# Altium schematic symbol library WP-RATR.SchLib: 10 symbols
Pins are listed as number, name and electrical type; pins without a type are passive.

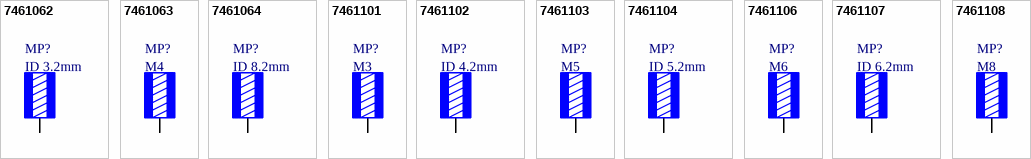
[diagram p0: symbols 7461062 to 7461108]

## 7461062
designator MP?, comment ID 3.2mm
WP-RATR REDCUBE PRESS-FIT right angled, two-rows, 7mm x 7mm x 14mm, ID 3.2mm, 100A; Manufacturer Part Number: 7461062; Manufacturer: Wurth Elektronik; Surface: Tin; Category: REDCUBE PRESS-FIT; Match Code: WP-RATR; ComponentLink1Description: Website Link; ComponentLink1URL: https://www.we-online.com/redexpert/article/7461062?ad; ComponentLink2Description: Datasheet Link; ComponentLink2URL: https://www.we-online.com/redexpert/spec/7461062?ad; Mount: Press Fit; Min Operating Temperature: -55°C; Max Operating Temperature: 150°C; Packaging: Bulk; Length: 7mm; Width: 7mm; Height: 14mm; Inner Diameter: 3.2mm; Material: Brass; Number of Pins: 6; Rated Current: 100A
footprint 7461062_chemical surface
footprint 7461062_HAL
pins: 1

## 7461063
designator MP?, comment M4
WP-RATR REDCUBE PRESS-FIT right angled, two-rows, 9mm x 9mm x 14mm, M4, 160A; Manufacturer Part Number: 7461063; Manufacturer: Wurth Elektronik; Surface: Tin; Category: REDCUBE PRESS-FIT; Match Code: WP-RATR; ComponentLink1Description: Website Link; ComponentLink1URL: https://www.we-online.com/redexpert/article/7461063?ad; ComponentLink2Description: Datasheet Link; ComponentLink2URL: https://www.we-online.com/redexpert/spec/7461063?ad; Mount: Press Fit; Min Operating Temperature: -55°C; Max Operating Temperature: 150°C; Packaging: Tray; Length: 9mm; Width: 9mm; Height: 14mm; Material: Brass; Number of Pins: 8; Rated Current: 160A; Thread Size: M4
footprint 7461063_chemical surface
footprint 7461063_HAL
pins: 1

## 7461064
designator MP?, comment ID 8.2mm
WP-RATR REDCUBE PRESS-FIT right angled, two-rows, 13mm x 13mm x 20mm, ID 8.2mm, 240A; Manufacturer Part Number: 7461064; Manufacturer: Wurth Elektronik; Surface: Tin; Category: REDCUBE PRESS-FIT; Match Code: WP-RATR; ComponentLink1Description: Website Link; ComponentLink1URL: https://www.we-online.com/redexpert/article/7461064?ad; ComponentLink2Description: Datasheet Link; ComponentLink2URL: https://www.we-online.com/redexpert/spec/7461064?ad; Mount: Press Fit; Min Operating Temperature: -55°C; Max Operating Temperature: 150°C; Packaging: Tray; Length: 13mm; Width: 13mm; Height: 20mm; Inner Diameter: 8.2mm; Material: Brass; Number of Pins: 10; Rated Current: 240A
footprint 7461064_chemical surface
footprint 7461064_HAL
pins: 1

## 7461101
designator MP?, comment M3
WP-RATR REDCUBE PRESS-FIT right angled, two-rows, 7mm x 7mm x 14mm, M3, 100A; Manufacturer Part Number: 7461101; Manufacturer: Wurth Elektronik; Surface: Tin; Category: REDCUBE PRESS-FIT; Match Code: WP-RATR; ComponentLink1Description: Website Link; ComponentLink1URL: https://www.we-online.com/redexpert/article/7461101?ad; ComponentLink2Description: Datasheet Link; ComponentLink2URL: https://www.we-online.com/redexpert/spec/7461101?ad; Mount: Press Fit; Min Operating Temperature: -55°C; Max Operating Temperature: 150°C; Packaging: Bulk; Length: 7mm; Width: 7mm; Height: 14mm; Material: Brass; Number of Pins: 6; Rated Current: 100A; Thread Size: M3
footprint 7461101_chemical surface
footprint 7461101_HAL
pins: 1

## 7461102
designator MP?, comment ID 4.2mm
WP-RATR REDCUBE PRESS-FIT right angled, two-rows, 9mm x 9mm x 14mm, ID 4.2mm, 160A; Manufacturer Part Number: 7461102; Manufacturer: Wurth Elektronik; Surface: Tin; Category: REDCUBE PRESS-FIT; Match Code: WP-RATR; ComponentLink1Description: Website Link; ComponentLink1URL: https://www.we-online.com/redexpert/article/7461102?ad; ComponentLink2Description: Datasheet Link; ComponentLink2URL: https://www.we-online.com/redexpert/spec/7461102?ad; Mount: Press Fit; Min Operating Temperature: -55°C; Max Operating Temperature: 150°C; Packaging: Tray; Length: 9mm; Width: 9mm; Height: 14mm; Inner Diameter: 4.2mm; Material: Brass; Number of Pins: 8; Rated Current: 160A
footprint 7461102_chemical surface
footprint 7461102_HAL
pins: 1

## 7461103
designator MP?, comment M5
WP-RATR REDCUBE PRESS-FIT right angled, two-rows, 9mm x 9mm x 14mm, M5, 160A; Manufacturer Part Number: 7461103; Manufacturer: Wurth Elektronik; Surface: Tin; Category: REDCUBE PRESS-FIT; Match Code: WP-RATR; ComponentLink1Description: Website Link; ComponentLink1URL: https://www.we-online.com/redexpert/article/7461103?ad; ComponentLink2Description: Datasheet Link; ComponentLink2URL: https://www.we-online.com/redexpert/spec/7461103?ad; Mount: Press Fit; Min Operating Temperature: -55°C; Max Operating Temperature: 150°C; Packaging: Tray; Length: 9mm; Width: 9mm; Height: 14mm; Material: Brass; Number of Pins: 8; Rated Current: 160A; Thread Size: M5
footprint 7461103_chemical surface
footprint 7461103_HAL
pins: 1

## 7461104
designator MP?, comment ID 5.2mm
WP-RATR REDCUBE PRESS-FIT right angled, two-rows, 9mm x 9mm x 14mm, ID 5.2mm, 160A; Manufacturer Part Number: 7461104; Manufacturer: Wurth Elektronik; Surface: Tin; Category: REDCUBE PRESS-FIT; Match Code: WP-RATR; ComponentLink1Description: Website Link; ComponentLink1URL: https://www.we-online.com/redexpert/article/7461104?ad; ComponentLink2Description: Datasheet Link; ComponentLink2URL: https://www.we-online.com/redexpert/spec/7461104?ad; Mount: Press Fit; Min Operating Temperature: -55°C; Max Operating Temperature: 150°C; Packaging: Tray; Length: 9mm; Width: 9mm; Height: 14mm; Inner Diameter: 5.2mm; Material: Brass; Number of Pins: 8; Rated Current: 160A
footprint 7461104_chemical surface
footprint 7461104_HAL
pins: 1

## 7461106
designator MP?, comment M6
WP-RATR REDCUBE PRESS-FIT right angled, two-rows, 13mm x 13mm x 20mm, M6, 240A; Manufacturer Part Number: 7461106; Manufacturer: Wurth Elektronik; Surface: Tin; Category: REDCUBE PRESS-FIT; Match Code: WP-RATR; ComponentLink1Description: Website Link; ComponentLink1URL: https://www.we-online.com/redexpert/article/7461106?ad; ComponentLink2Description: Datasheet Link; ComponentLink2URL: https://www.we-online.com/redexpert/spec/7461106?ad; Mount: Press Fit; Min Operating Temperature: -55°C; Max Operating Temperature: 150°C; Packaging: Tray; Length: 13mm; Width: 13mm; Height: 20mm; Material: Brass; Number of Pins: 10; Rated Current: 240A; Thread Size: M6
footprint 7461106_chemical surface
footprint 7461106_HAL
pins: 1

## 7461107
designator MP?, comment ID 6.2mm
WP-RATR REDCUBE PRESS-FIT right angled, two-rows, 13mm x 13mm x 20mm, ID 6.2mm, 240A; Manufacturer Part Number: 7461107; Manufacturer: Wurth Elektronik; Surface: Tin; Category: REDCUBE PRESS-FIT; Match Code: WP-RATR; ComponentLink1Description: Website Link; ComponentLink1URL: https://www.we-online.com/redexpert/article/7461107?ad; ComponentLink2Description: Datasheet Link; ComponentLink2URL: https://www.we-online.com/redexpert/spec/7461107?ad; Mount: Press Fit; Min Operating Temperature: -55°C; Max Operating Temperature: 150°C; Packaging: Tray; Length: 13mm; Width: 13mm; Height: 20mm; Inner Diameter: 6.2mm; Material: Brass; Number of Pins: 10; Rated Current: 240A
footprint 7461107_chemical surface
footprint 7461107_HAL
pins: 1

## 7461108
designator MP?, comment M8
WP-RATR REDCUBE PRESS-FIT right angled, two-rows, 13mm x 13mm x 20mm, M8, 240A; Manufacturer Part Number: 7461108; Manufacturer: Wurth Elektronik; Surface: Tin; Category: REDCUBE PRESS-FIT; Match Code: WP-RATR; ComponentLink1Description: Website Link; ComponentLink1URL: https://www.we-online.com/redexpert/article/7461108?ad; ComponentLink2Description: Datasheet Link; ComponentLink2URL: https://www.we-online.com/redexpert/spec/7461108?ad; Mount: Press Fit; Min Operating Temperature: -55°C; Max Operating Temperature: 150°C; Packaging: Tray; Length: 13mm; Width: 13mm; Height: 20mm; Material: Brass; Number of Pins: 10; Rated Current: 240A; Thread Size: M8
footprint 7461108_chemical surface
footprint 7461108_HAL
pins: 1